# Altium schematic symbol library DIODE_TVS.SchLib: 1 symbol
Pins are listed as number, name and electrical type; pins without a type are passive.

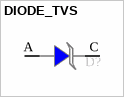
[diagram p0: symbol DIODE_TVS]

## DIODE_TVS
designator D?
DIODE TVS UNIDIR 3.3VWM 20VC SOD523
pins: A, C